# Altium schematic symbol library C0805J104K1RACAUTO.SchLib: 1 symbol
Pins are listed as number, name and electrical type; pins without a type are passive.

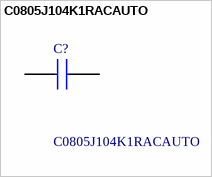
[diagram p0: symbol C0805J104K1RACAUTO]

## C0805J104K1RACAUTO
designator C?
SMD Auto X7R FO, Ceramic, 0.1 uF, 10%, 100 VDC, X7R, SMD, MLCC, Open Mode, Automotive Grade, 0805, 0.6 mm; Manufacturer_Name: KEMET; Geometry.Height: 1.4mm; Mouser Part Number: *; Mouser Price/Stock: *; Manufacturer_Part_Number: C0805J104K1RACAUTO; Datasheet Link: https://search.kemet.com/component-documentation/download/specsheet/C0805J104K1RACAUTO
footprint CAPC2012X140N
pins: 1, 2